# Altium schematic symbol library HUB_GL3532.SchLib: 7 symbols
Pins are listed as number, name and electrical type; pins without a type are passive.

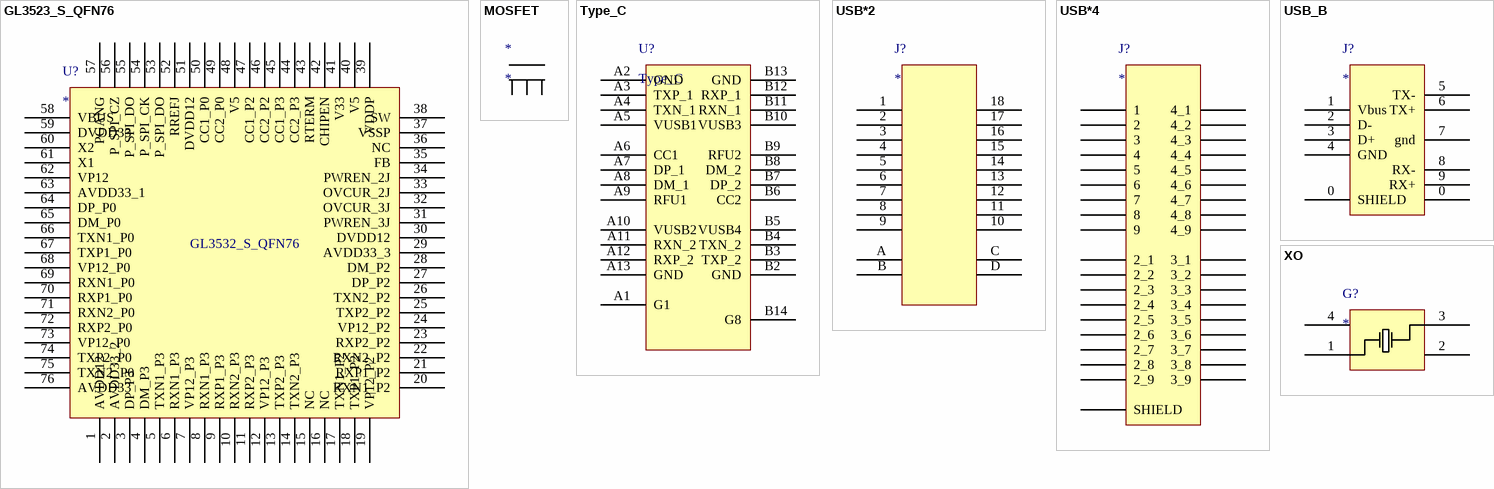
[diagram p0: symbols GL3523_S_QFN76 to XO]

## GL3523_S_QFN76
designator U?
footprint GL3523_QFN76 (QFN, 76-Leads, Body 9.00x9.00mm, Pitch 0.40mm, Thermal Pad 5.75x5.75mm, IPC Medium Density)
pins: 1 AVDD12, 2 AVDD33_2, 3 DP_P3, 4 DM_P3, 5 TXN1_P3, 6 RXN1_P3, 7 VP12_P3, 8 RXN1_P3, 9 RXP1_P3, 10 RXN2_P3, 11 RXP2_P3, 12 VP12_P3, 13 TXP2_P3, 14 TXN2_P3, 15 NC, 16 NC, 17 TXN1_P2, 18 TXP1_P2, 19 VP12_P2, 20 RXN1_P2, 21 RXP1_P2, 22 RXN2_P2, 23 RXP2_P2, 24 VP12_P2, 25 TXP2_P2, 26 TXN2_P2, 27 DP_P2, 28 DM_P2, 29 AVDD33_3, 30 DVDD12, 31 PWREN_3J, 32 OVCUR_3J, 33 OVCUR_2J, 34 PWREN_2J, 35 FB, 36 NC, 37 VSSP, 38 SW, 39 VDDP, 40 V5, 41 V33, 42 CHIPEN, 43 RTERM, 44 CC2_P3, 45 CC1_P3, 46 CC2_P2, 47 CC1_P2, 48 V5, 49 CC2_P0, 50 CC1_P0, 51 DVDD12, 52 RREFJ, 53 P_SPI_DO, 54 P_SPI_CK, 55 P_SPI_DO, 56 P_SPI_CZ, 57 PGANG, 58 VBUS, 59 DVDD33, 60 X2, 61 X1, 62 VP12, 63 AVDD33_1, 64 DP_P0, 65 DM_P0, 66 TXN1_P0, 67 TXP1_P0, 68 VP12_P0, 69 RXN1_P0, 70 RXP1_P0, 71 RXN2_P0, 72 RXP2_P0, 73 VP12_P0, 74 TXP2_P0, 75 TXN2_P0, 76 AVDD33
text: GL3532_S_QFN76

## MOSFET
designator *

## Type_C
designator U?
pins: A1 G1, A2 GND, A3 TXP_1, A4 TXN_1, A5 VUSB1, A6 CC1, A7 DP_1, A8 DM_1, A9 RFU1, A10 VUSB2, A11 RXN_2, A12 RXP_2, A13 GND, B2 GND, B3 TXP_2, B4 TXN_2, B5 VUSB4, B6 CC2, B7 DP_2, B8 DM_2, B9 RFU2, B10 VUSB3, B11 RXN_1, B12 RXP_1, B13 GND, B14 G8

## USB*2
designator J?
footprint USB3.0_Double_DIP
pins: 1, 2, 3, 4, 5, 6, 7, 8, 9, 10, 11, 12, 13, 14, 15, 16, 17, 18, A, B, C, D

## USB*4
designator J?
pins: ?1 1, ?2 2, ?3 3, ?4 4, ?5 5, ?6 6, ?7 7, ?8 8, ?9 9, ?10 2_1, ?11 2_2, ?12 2_3, ?13 2_4, ?14 2_5, ?15 2_6, ?16 2_7, ?17 2_8, ?18 2_9, ?19 4_1, ?20 4_2, ?21 4_3, ?22 4_4, ?23 4_5, ?24 4_6, ?25 4_7, ?26 4_8, ?27 4_9, ?28 3_1, ?29 3_2, ?30 3_3, ?31 3_4, ?32 3_5, ?33 3_6, ?34 3_7, ?35 3_8, ?36 3_9, ?37 SHIELD

## USB_B
designator J?
USB3.0_B
footprint USB3.0_TP
pins: 0 SHIELD, 0, 1 Vbus, 2 D-, 3 D+, 4 GND, 5 TX-, 6 TX+, 7 gnd, 8 RX-, 9 RX+

## XO
designator G?
25M XO
footprint XTAL (DFN, 4-Leads, Body 2.50x3.20mm, Pitch 2.20mm, IPC Medium Density)
pins: 1, 2, 3, 4